# EAGLE library part RS232-MODULE (library IBe-9102-lib)
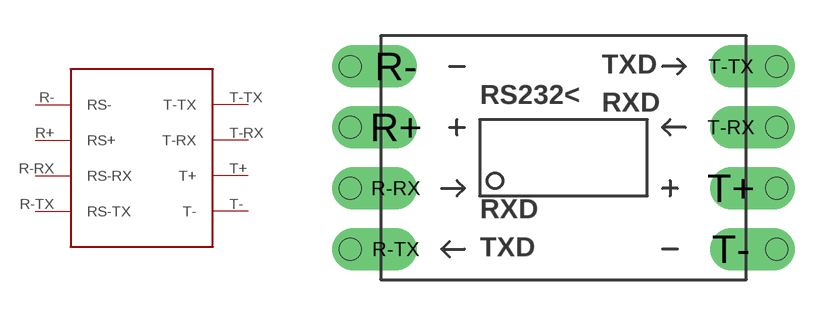
[diagram p10: symbol with the pads of RS-1; footprint RS-1]

Designator prefix -

## RS232-MODULE  [RS-1]
R+  RS+
R-  RS-
R-RX  RS-RX  in
R-TX  RS-TX  out
T+  T+
T-  T-
T-RX  T-RX  in
T-TX  T-TX  out

## Footprint RS-1 (pad centres in mm)
drill 0.9 pad 1.778 offset: R+ 0.635,6.35; R- 0.635,8.89; R-RX 0.635,3.81; R-TX 0.635,1.27; T+ 14.605,3.81; T- 14.605,1.27; T-RX 14.605,6.35; T-TX 14.605,8.89
hole 0.9 at -1.27,8.89
hole 0.9 at -1.27,6.35
hole 0.9 at -1.27,3.81
hole 0.9 at -1.27,1.27
hole 0.9 at 16.51,8.89
hole 0.9 at 16.51,6.35
hole 0.9 at 16.51,3.81
hole 0.9 at 16.51,1.27